# Altium schematic symbol library CDCLVC1102-TSSOP8.SchLib: 1 symbol
Pins are listed as number, name and electrical type; pins without a type are passive.

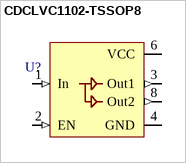
[diagram p0: symbol CDCLVC1102-TSSOP8]

## CDCLVC1102-TSSOP8
designator U?  (value not drawn)
pins: 1 In (in), 2 EN (in), 3 Out1 (out), 4 GND (power), 6 VCC (power), 8 Out2 (out)